# Altium footprint library FYP_Drone.PcbLib: 32 footprints (part 2 of 2)
Each footprint in its own frame and in the unit in brackets; x right, y up, seen from the top. Pads: shape width x height; smd on the part's side, far side on the other; paste and mask are expansions set on the pad; w line width, h text height; cw(c..) or ccw(c..) is an arc to the next point about the centre after c.
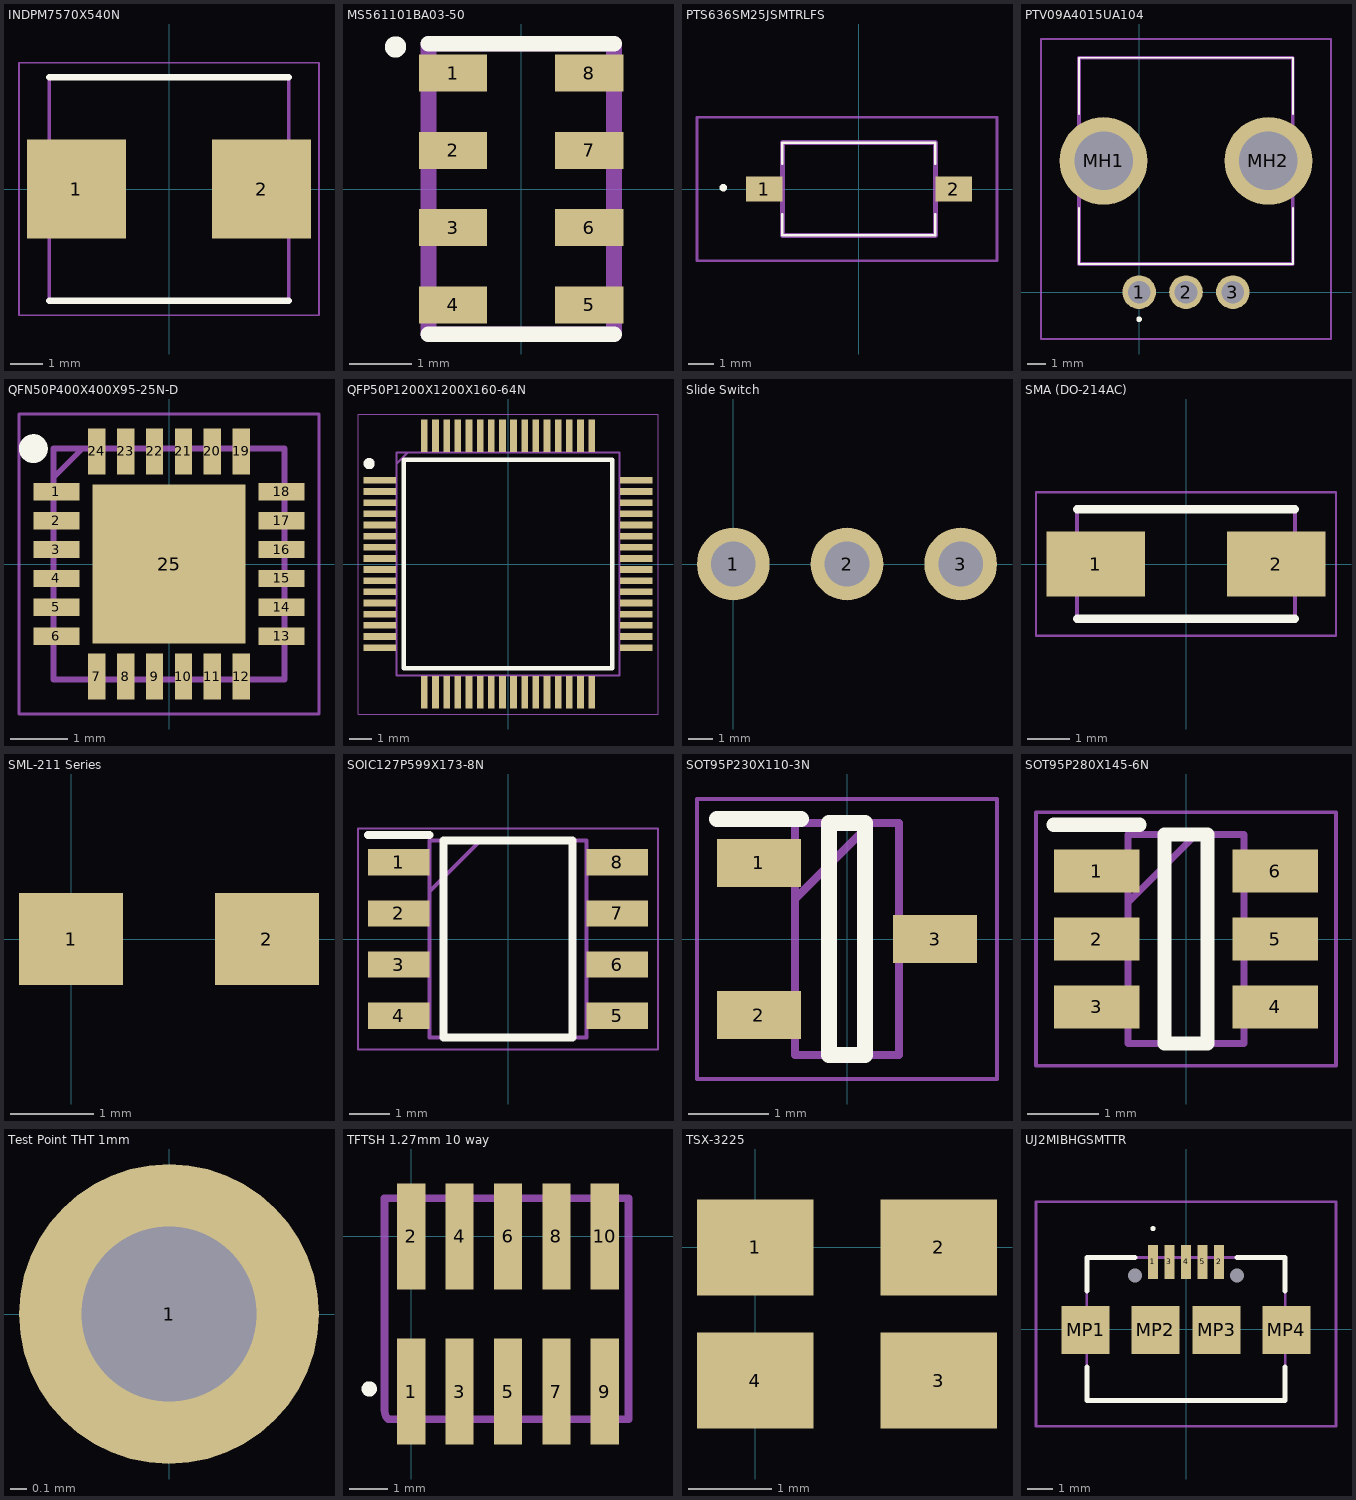
[diagram p1: the footprints below, top view; thin cyan lines are the x and y axes]

## INDPM7570X540N [mm]
pads (2):
  rect 3.1x3.1 smd: 1(-2.9,0) 2(2.9,0)
Top Overlay:
  lines w0.2: -3.75,-3.5 3.75,-3.5 ; -3.75,3.5 3.75,3.5
Mechanical 13:
  lines w0.1: -3.75,-3.5 -3.75,3.5 3.75,3.5 3.75,-3.5 -3.75,-3.5
Mechanical 15:
  lines w0.05: -4.7,-3.95 -4.7,3.95 4.7,3.95 4.7,-3.95 -4.7,-3.95
3D body "SPM7054VT-680M-D.stp": height 5.4, standoff 0, extent -3.75,-3.5 3.75,3.5

## MS561101BA03-50 [mm]
pads (8):
  rect 1.1x0.6 smd: 1(-1.1,1.875) 2(-1.1,0.625) 3(-1.1,-0.625) 4(-1.1,-1.875) 5(1.1,-1.875) 6(1.1,-0.625) 7(1.1,0.625) 8(1.1,1.875)
Top Overlay:
  circle w0.254: c-2.032,2.297 r0.045
  lines w0.254: -1.5,-2.35 1.5,-2.35 ; -1.5,2.35 1.5,2.35
Mechanical 13:
  lines w0.254: -1.5,-2.35 1.5,-2.35 1.5,2.35 -1.5,2.35 -1.5,-2.35
3D body "MS561101BA03-50.stp": height 0.95, standoff 0, extent -1.5,-2.5 1.5,2.5

## PTS636SM25JSMTRLFS [mm]
pads (2):
  rect 1.45x1 smd: 1(-3.775,0) 2(3.775,0)
Top Overlay:
  lines w0.1: -3.05,-1.85 3.05,-1.85 ; -3.05,-1.85 3.05,-1.85 ; -3.05,-1.85 -3.05,-1 -3.05,-1.85 ; -3.05,1.85 -3.05,1 -3.05,1.85 ; -3.05,1.85 3.05,1.85 ; -3.05,1.85 3.05,1.85 ; 3.05,-1.85 3.05,-1 3.05,-1.85 ; 3.05,1.85 3.05,1 3.05,1.85
  lines w0.2: -5.4,0 cw(c-5.4,0.05) -5.4,0.1 ; -5.4,0 ccw(c-5.4,0.05) -5.4,0.1 ; -5.4,0 cw(c-5.4,0.05) -5.4,0.1
Mechanical 13:
  lines w0.2: -3.05,-1.85 3.05,-1.85 3.05,1.85 -3.05,1.85 -3.05,-1.85
Mechanical 15:
  lines w0.1: -6.45,-2.85 5.5,-2.85 5.5,2.85 -6.45,2.85 -6.45,-2.85
3D body "PTS636_SM25J_SMTR_LFS.stp": height 2.8, standoff 0, extent -4.4,-1.85 4.4,1.85

## PTV09A4015UA104 [mm]
pads (5):
  round 1.8 hole 1.2: 1(0,0) 2(2.5,0) 3(5,0)
  round 4.68 hole 3.12: MH1(-1.9,7) MH2(6.9,7)
Top Overlay:
  lines w0.1: -3.2,1.5 -3.2,4.5 -3.2,1.5 ; -3.2,1.5 8.2,1.5 ; -3.2,1.5 8.2,1.5 ; -3.2,12.5 8.2,12.5 ; -3.2,12.5 8.2,12.5 ; -3.2,12.5 -3.2,9.5 -3.2,12.5 ; 8.2,1.5 8.2,4.5 8.2,1.5 ; 8.2,12.5 8.2,9.5 8.2,12.5
  lines w0.2: 0,-1.5 cw(c0,-1.45) 0,-1.4 ; 0,-1.5 ccw(c0,-1.45) 0,-1.4 ; 0,-1.5 cw(c0,-1.45) 0,-1.4
Mechanical 13:
  lines w0.2: -3.2,1.5 -3.2,12.5 8.2,12.5 8.2,1.5 -3.2,1.5
Mechanical 15:
  lines w0.1: -5.24,-2.5 -5.24,13.5 10.24,13.5 10.24,-2.5 -5.24,-2.5
3D body "R-0904N-L-15KS.step": height 15, standoff -3.8, extent -3.161,-0.2 8.161,12.4

## QFN50P400X400X95-25N-D [mm]
pads (25):
  rect 0.8x0.3 smd: 1(-1.95,1.25) 2(-1.95,0.75) 3(-1.95,0.25) 4(-1.95,-0.25) 5(-1.95,-0.75) 6(-1.95,-1.25) 13(1.95,-1.25) 14(1.95,-0.75) 15(1.95,-0.25) 16(1.95,0.25) 17(1.95,0.75) 18(1.95,1.25)
  rect 0.3x0.8 smd: 7(-1.25,-1.95) 8(-0.75,-1.95) 9(-0.25,-1.95) 10(0.25,-1.95) 11(0.75,-1.95) 12(1.25,-1.95) 19(1.25,1.95) 20(0.75,1.95) 21(0.25,1.95) 22(-0.25,1.95) 23(-0.75,1.95) 24(-1.25,1.95)
  rect 2.65x2.75 smd: 25(0,0)
Top Overlay:
  circle w0.25: c-2.35,2 r0.125
Mechanical 13:
  lines w0.1: -2,1.5 -1.5,2 ; -2,-2 -2,2 2,2 2,-2 -2,-2
Mechanical 15:
  lines w0.05: -2.6,-2.6 -2.6,2.6 2.6,2.6 2.6,-2.6 -2.6,-2.6
3D body "ICM-20689.stp": height 0.95, standoff 0, extent -2.05,-2.05 2.05,2.05

## QFP50P1200X1200X160-64N [mm]
pads (64):
  rect 1.45x0.3 smd: 1(-5.75,3.75) 2(-5.75,3.25) 3(-5.75,2.75) 4(-5.75,2.25) 5(-5.75,1.75) 6(-5.75,1.25) 7(-5.75,0.75) 8(-5.75,0.25) 9(-5.75,-0.25) 10(-5.75,-0.75) 11(-5.75,-1.25) 12(-5.75,-1.75) 13(-5.75,-2.25) 14(-5.75,-2.75) 15(-5.75,-3.25) 16(-5.75,-3.75) 33(5.75,-3.75) 34(5.75,-3.25) 35(5.75,-2.75) 36(5.75,-2.25) 37(5.75,-1.75) 38(5.75,-1.25) 39(5.75,-0.75) 40(5.75,-0.25) 41(5.75,0.25) 42(5.75,0.75) 43(5.75,1.25) 44(5.75,1.75) 45(5.75,2.25) 46(5.75,2.75) 47(5.75,3.25) 48(5.75,3.75)
  rect 0.3x1.45 smd: 17(-3.75,-5.75) 18(-3.25,-5.75) 19(-2.75,-5.75) 20(-2.25,-5.75) 21(-1.75,-5.75) 22(-1.25,-5.75) 23(-0.75,-5.75) 24(-0.25,-5.75) 25(0.25,-5.75) 26(0.75,-5.75) 27(1.25,-5.75) 28(1.75,-5.75) 29(2.25,-5.75) 30(2.75,-5.75) 31(3.25,-5.75) 32(3.75,-5.75) 49(3.75,5.75) 50(3.25,5.75) 51(2.75,5.75) 52(2.25,5.75) 53(1.75,5.75) 54(1.25,5.75) 55(0.75,5.75) 56(0.25,5.75) 57(-0.25,5.75) 58(-0.75,5.75) 59(-1.25,5.75) 60(-1.75,5.75) 61(-2.25,5.75) 62(-2.75,5.75) 63(-3.25,5.75) 64(-3.75,5.75)
Top Overlay:
  circle w0.25: c-6.225,4.5 r0.125
  lines w0.2: -4.675,-4.675 4.675,-4.675 4.675,4.675 -4.675,4.675 -4.675,-4.675
Mechanical 13:
  lines w0.1: -5,4.5 -4.5,5 ; -5,-5 5,-5 5,5 -5,5 -5,-5
Mechanical 15:
  lines w0.05: -6.725,-6.725 6.725,-6.725 6.725,6.725 -6.725,6.725 -6.725,-6.725
3D body "STM32F405RGT6V.stp": height 1.6, standoff 0, extent -6,-6 6,6

## Slide Switch [mm] "RS Pro SPDT Slide switch"
pads (3):
  round 3 hole 1.85: 1(0,0) 2(4.7,0) 3(9.4,0)
3D body "RS Pro Slide Switch v1.step": height 10.35, standoff -6.6, extent -1.65,-3.3 11.05,3.3

## SMA (DO-214AC) [mm]
pads (2):
  rect 2.35x1.55 smd: 1(-2.15,0) 2(2.15,0)
Top Overlay:
  lines w0.2: -2.598,-1.302 2.598,-1.302 ; -2.598,1.302 2.598,1.302
Mechanical 13:
  lines w0.1: -2.598,-1.302 -2.598,1.302 2.598,1.302 2.598,-1.302 -2.598,-1.302
Mechanical 15:
  lines w0.05: -3.575,-1.71 -3.575,1.71 3.575,1.71 3.575,-1.71 -3.575,-1.71
3D body "B260A-13-F.stp": height 2.3, standoff 0, extent -2.598,-1.302 2.598,1.302

## SML-211 Series [mm] "1.8 V LED2012 (0805) SMD"
pads (2):
  rect 1.25x1.1 smd: 1(0,0) 2(2.35,0)
3D body "SML-211UT v1.step": height 0.8, standoff 0, extent 0.175,-0.625 2.175,0.625

## SOIC127P599X173-8N [mm] "MIC4680 buck converter"
pads (8):
  rect 1.525x0.65 smd: 1(-2.712,1.905) 2(-2.712,0.635) 3(-2.712,-0.635) 4(-2.712,-1.905) 5(2.712,-1.905) 6(2.712,-0.635) 7(2.712,0.635) 8(2.712,1.905)
Top Overlay:
  lines w0.2: -3.475,2.58 -1.95,2.58 ; -1.6,-2.445 -1.6,2.445 1.6,2.445 1.6,-2.445 -1.6,-2.445
Mechanical 13:
  lines w0.1: -1.95,1.175 -0.68,2.445 ; -1.95,-2.445 -1.95,2.445 1.95,2.445 1.95,-2.445 -1.95,-2.445
Mechanical 15:
  lines w0.05: -3.725,-2.74 -3.725,2.74 3.725,2.74 3.725,-2.74 -3.725,-2.74
3D body "MIC4680-3.3YM.stp": height 1.73, standoff 0, extent -2.995,-2.445 2.995,2.445

## SOT95P230X110-3N [mm]
pads (3):
  rect 1.05x0.6 smd: 1(-1.1,0.95) 2(-1.1,-0.95) 3(1.1,0)
Top Overlay:
  lines w0.2: -1.625,1.5 -0.575,1.5 ; -0.225,-1.45 0.225,-1.45 0.225,1.45 -0.225,1.45 -0.225,-1.45
Mechanical 13:
  lines w0.1: -0.65,0.5 0.3,1.45 ; -0.65,-1.45 0.65,-1.45 0.65,1.45 -0.65,1.45 -0.65,-1.45
Mechanical 15:
  lines w0.05: -1.875,-1.75 1.875,-1.75 1.875,1.75 -1.875,1.75 -1.875,-1.75
3D body "PMV250EPEAR.stp": height 1.1, standoff 0, extent -1.15,-1.45 1.15,1.45

## SOT95P280X145-6N [mm]
pads (6):
  rect 1.2x0.6 smd: 1(-1.25,0.95) 2(-1.25,0) 3(-1.25,-0.95) 4(1.25,-0.95) 5(1.25,0) 6(1.25,0.95)
Top Overlay:
  lines w0.2: -1.85,1.6 -0.65,1.6 ; -0.3,-1.462 -0.3,1.462 0.3,1.462 0.3,-1.462 -0.3,-1.462
Mechanical 13:
  lines w0.1: -0.812,0.512 0.138,1.462 ; -0.812,-1.462 -0.812,1.462 0.812,1.462 0.812,-1.462 -0.812,-1.462
Mechanical 15:
  lines w0.05: -2.1,-1.775 -2.1,1.775 2.1,1.775 2.1,-1.775 -2.1,-1.775
3D body "USBLC6-2SC6.stp": height 1.45, standoff 0, extent -1.4,-1.462 1.4,1.462

## Test Point THT 1mm [mm]
pads (1):
  round 1.8 hole 1.05: 1(0,0)
3D body "testpin black 1mm.stp": height 5, standoff -2.53, extent -1.15,-1.15 1.15,1.151

## TFTSH 1.27mm 10 way [mm] "Samtec, FTSH, 10 Way, 2 Row, SMT, Straight Pin Header"
pads (10):
  rect 0.74x2.79 smd: 1(0,-4.07) 2(0,0) 3(1.27,-4.07) 4(1.27,0) 5(2.54,-4.07) 6(2.54,0) 7(3.81,-4.07) 8(3.81,0) 9(5.08,-4.07) 10(5.08,0)
Top Overlay:
  circle w0.2: c-1.1,-4 r0.1
Mechanical 13:
  lines w0.2: -0.7,-4.559 ccw(c-0.359,-4.559) -0.6,-4.8 5.7,-4.8 5.7,1 -0.7,1 -0.7,-4.559
3D body "FTSH-105-01-L-DV.stp": height 5.96, standoff -0.01, extent -0.635,-4.826 5.715,1.016

## TSX-3225 [mm] "EPSON 16MHz Crystal Unit ±10ppm TSX-3225 4-Pin 3.2 x 2.5 x 0.6mm"
pads (4):
  rect 1.4x1.15 smd: 1(0,0) 2(2.2,0) 3(2.2,-1.6) 4(0,-1.6)

## UJ2MIBHGSMTTR [mm]
pads (11):
  rect 0.4x1.35 smd: 1(-1.3,2.64) 2(1.3,2.64) 3(-0.65,2.64) 4(0,2.64) 5(0.65,2.64)
  round 0.275 hole 0.55 unplated: MH1(-2,2.115) MH2(2,2.115)
  rect 1.9x1.9 smd: MP1(-3.95,-0.035) MP2(-1.2,-0.035) MP3(1.2,-0.035) MP4(3.95,-0.035)
Top Overlay:
  lines w0.1: -1.3,3.9 cw(c-1.3,3.95) -1.3,4 cw(c-1.3,3.95) -1.3,3.9
  lines w0.2: -3.9,-1.5 -3.9,-2.815 3.9,-2.815 3.9,-1.5 ; -3.9,1.5 -3.9,2.815 -2,2.815 ; 2,2.815 3.9,2.815 3.9,1.5
Mechanical 13:
  lines w0.1: -3.9,-2.815 -3.9,2.815 3.9,2.815 3.9,-2.815 -3.9,-2.815
Mechanical 15:
  lines w0.1: -5.9,-3.815 -5.9,5 5.9,5 5.9,-3.815 -5.9,-3.815
3D body "CUI_DEVICES_UJ2-MIBH-G-SMT-TR.step": height 2.7, standoff -0.55, extent -4.05,-2.813 4.05,2.83